# EAGLE library part MCP6562 (library op-amp)
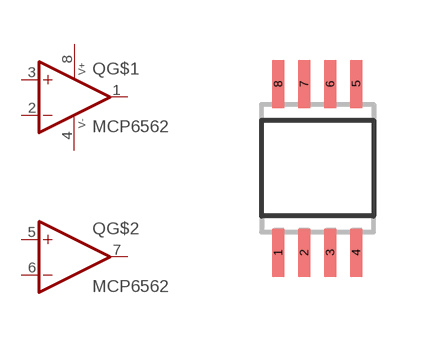
[diagram p68: symbol with the pads of MSOP08; footprint MSOP08]

Designator prefix Q; gates G$1=OPAMP G$2=OPAMP G$3=PWR+-

## MCP6562 (DIGIKEY: MCP6562-E/MS-ND; P1I: o)  [MSOP08]
1  G$1:OUT  out
2  G$1:-IN  in
3  G$1:+IN  in
4  G$3:V-  pwr
5  G$2:+IN  in
6  G$2:-IN  in
7  G$2:OUT  out
8  G$3:V+  pwr

## Footprint MSOP08 (pad centres in mm)
Mini Small Outline Package
smd 0.3 x 1.2: 1 -0.976,-2.113; 2 -0.326,-2.113; 3 0.324,-2.113; 4 0.974,-2.113; 5 0.974,2.112; 6 0.324,2.112; 7 -0.326,2.112; 8 -0.976,2.112